# EAGLE library part ADAFRUIT_DPDT (library Adafruit Circuit Playground Bluefruit)
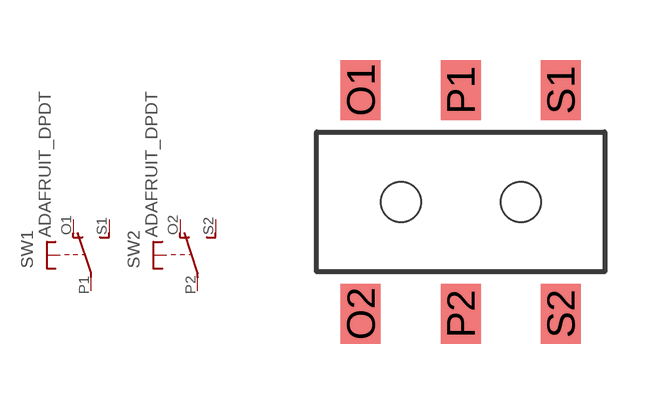
[diagram p0: symbol with the pads of ADAFRUIT_EG1390; footprint ADAFRUIT_EG1390]

Designator prefix SW; gates 1=ADAFRUIT_TSU 2=ADAFRUIT_TSU

## ADAFRUIT_DPDT-EG1390  [ADAFRUIT_EG1390]
O1  1:O  pas
O2  2:O  pas
P1  1:P  pas
P2  2:P  pas
S1  1:S  pas
S2  2:S  pas

## Footprint ADAFRUIT_EG1390 (pad centres in mm)
smd 1 x 1.5: O1 -2.5,2.8; O2 -2.5,-2.8; P1 0,2.8; P2 0,-2.8; S1 2.5,2.8; S2 2.5,-2.8
hole 1 at 1.5,0
hole 1 at -1.5,0